# Altium schematic symbol library SmartCoin.SchLib: 18 symbols
Pins are listed as number, name and electrical type; pins without a type are passive.

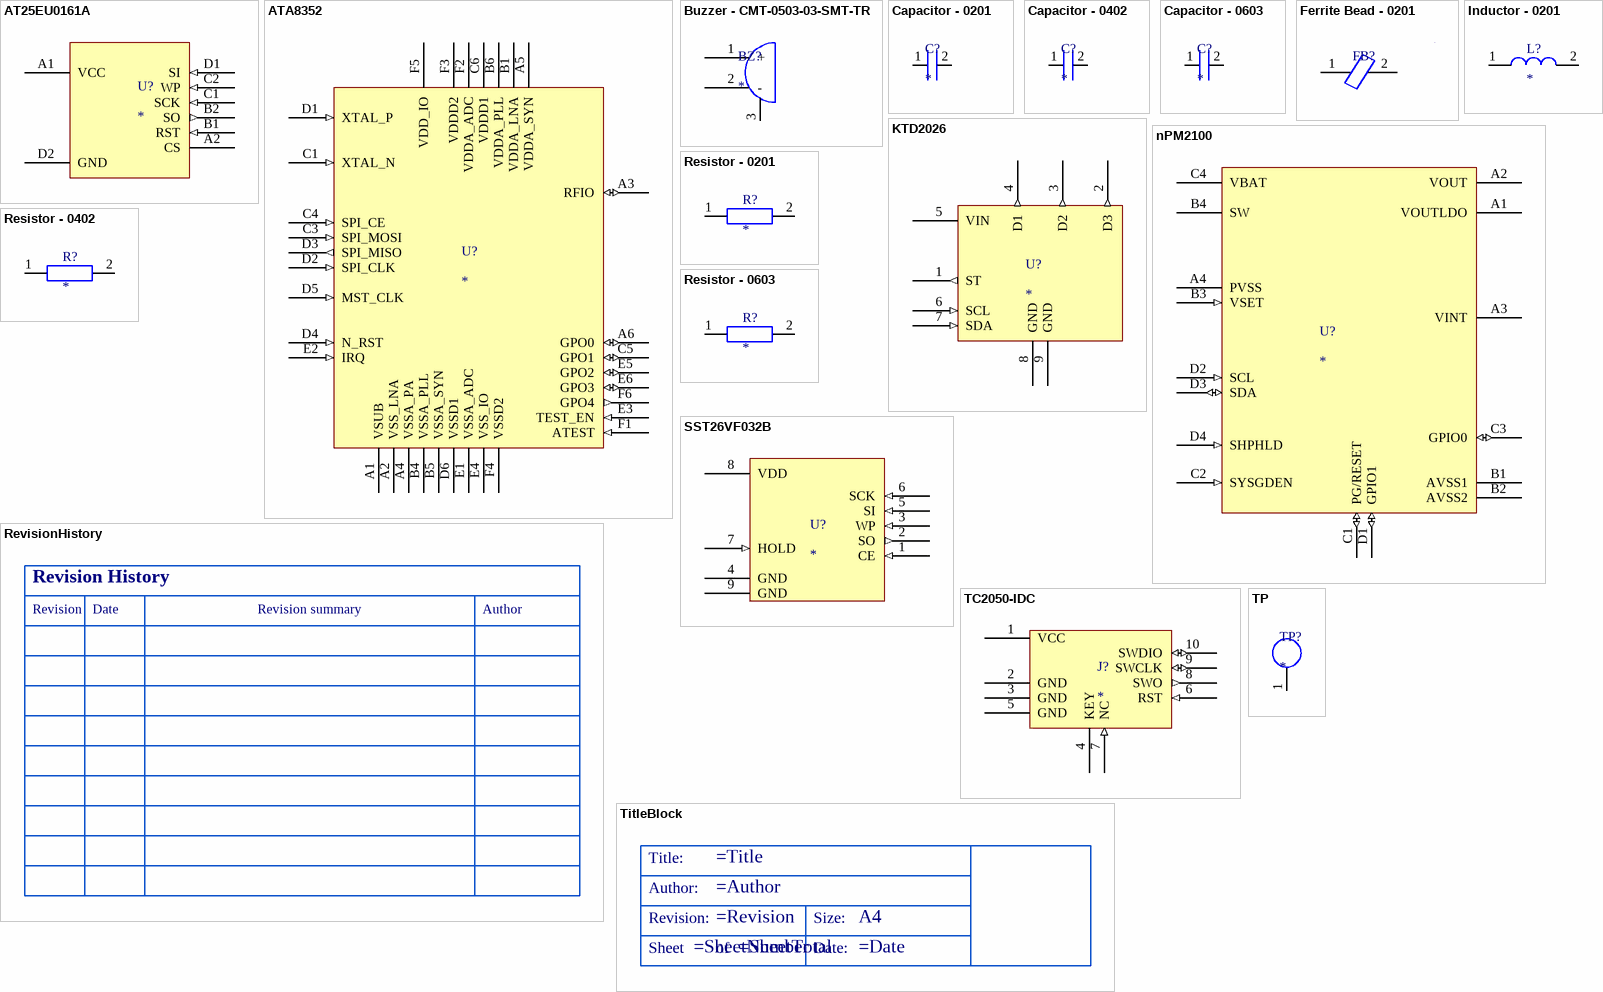
[diagram p0: symbols AT25EU0161A to TP]

## AT25EU0161A
designator U?
16-Mbit, Ultra-Low Energy Serial Flash Memory
footprint AT25EU0161A (16-Mbit, Ultra-Low Energy Serial Flash Memory)
pins: A1 VCC (power), A2 CS, B1 RST (in), B2 SO (out), C1 SCK (in), C2 WP (in), D1 SI (in), D2 GND (power)

## ATA8352
designator U?
footprint ATA8352 (ATA8352 Transceiver)
pins: A1 VSUB (power), A2 VSS_LNA (power), A3 RFIO (io), A4 VSSA_PA (power), A5 VDDA_SYN (power), A6 GPO0 (io), B1 VDDA_LNA (power), B4 VSSA_PLL (power), B5 VSSA_SYN (power), B6 VDDA_PLL (power), C1 XTAL_N (in), C3 SPI_MOSI (in), C4 SPI_CE (in), C5 GPO1 (io), C6 VDDD1 (power), D1 XTAL_P (in), D2 SPI_CLK (in), D3 SPI_MISO (out), D4 N_RST (in), D5 MST_CLK (in), D6 VSSD1 (power), E1 VSSA_ADC (power), E2 IRQ (in), E3 TEST_EN (in), E4 VSS_IO (power), E5 GPO2 (io), E6 GPO3 (io), F1 ATEST (in), F2 VDDA_ADC (power), F3 VDDD2 (power), F4 VSSD2 (power), F5 VDD_IO (power), F6 GPO4 (out)

## Buzzer - CMT-0503-03-SMT-TR
designator BZ?
MAGNETIC BUZZER TRANSDUCER
footprint Buzzer - CMT-0503-03-SMT-TR
pins: 1 +, 2 -, 3

## Capacitor - 0201
designator C?
footprint Capacitor - 0201 (Chip Capacitor, 2-Leads, Body 0,60x0,30mm, IPC High Density)
pins: 1, 2

## Capacitor - 0402
designator C?
footprint Capacitor - 0402 (Chip Capacitor, 2-Leads, Body 1,00x0,50mm, IPC High Density)
pins: 1, 2

## Capacitor - 0603
designator C?
footprint Capacitor - 0603 (Chip Capacitor, 2-Leads, Body 1,60x0,80mm, IPC High Density)
pins: 1, 2

## Ferrite Bead - 0201
designator FB?
Supplier 1: Digikey; Supplier Part Number 1: 445-MPZ1608S601ATD25CT-ND
footprint Ferrite Beat - 0201 (Chip Inductor, 2-Leads, Body 0,60x0,30mm, IPC High Density)
pins: 1, 2

## Inductor - 0201
designator L?
footprint Inductor - 0201 (Chip Inductor, 2-Leads, Body 0,60x0,30mm, IPC High Density)
pins: 1, 2

## KTD2026
designator U?
3-CHANNEL Rgb Led Driver With I2C
footprint KTD2026 (3-CHANNEL Rgb Led Driver With I2C)
pins: 1 ST (out), 2 D3 (out), 3 D2 (out), 4 D1 (out), 5 VIN (power), 6 SCL (in), 7 SDA (in), 8 GND (power), 9 GND (power)

## nPM2100
designator U?
footprint npm2100 (Power Management IC (PMIC))
pins: A1 VOUTLDO (power), A2 VOUT (power), A3 VINT (power), A4 PVSS (power), B1 AVSS1 (power), B2 AVSS2 (power), B3 VSET (in), B4 SW (power), C1 PG/RESET (io), C2 SYSGDEN (in), C3 GPIO0 (io), C4 VBAT (power), D1 GPIO1 (io), D2 SCL (in), D3 SDA (io), D4 SHPHLD (in)

## Resistor - 0201
designator R?
footprint Resistor - 0201 (Chip Resistor, 2-Leads, Body 0,60x0,30mm, IPC High Density)
pins: 1, 2

## Resistor - 0402
designator R?
footprint Resistor - 0402 (Chip Resistor, 2-Leads, Body 1,00x0,50mm, IPC High Density)
pins: 1, 2

## Resistor - 0603
designator R?
footprint Resistor - 0603 (Chip Resistor, 2-Leads, Body 1,60x0,80mm, IPC High Density)
pins: 1, 2

## RevisionHistory
designator *  (value not drawn)  (graphical)
text: Revision History; Revision; Date; Revision summary; Author

## SST26VF032B
designator U?
32-Mbit Serial Quad I/O™ (SQI™) Flash Memory
footprint SST26VF032B (32-Mbit Serial Quad I/O™ (SQI™) Flash Memory)
pins: 1 CE (in), 2 SO (out), 3 WP (in), 4 GND (power), 5 SI (in), 6 SCK (in), 7 HOLD (in), 8 VDD (power), 9 GND (power)

## TC2050-IDC
designator J?  (no BOM)
footprint TC2050-IDC
pins: 1 VCC (power), 2 GND (power), 3 GND (power), 4 KEY, 5 GND (power), 6 RST (in), 7 NC (in), 8 SWO (out), 9 SWCLK (io), 10 SWDIO (io)

## TitleBlock
designator *  (value not drawn)  (graphical)
text: Title:; Author:; Revision:; Size:; A4; Sheet; of; Date:

## TP
designator TP?  (no BOM)
footprint TP (Test Point)
pins: 1